# Altium footprint library Button_Switch_Keyboard.PcbLib: 29 footprints (part 1 of 2)
Each footprint in its own frame and in the unit in brackets; x right, y up, seen from the top. Pads: shape width x height; smd on the part's side, far side on the other; paste and mask are expansions set on the pad; w line width, h text height; cw(c..) or ccw(c..) is an arc to the next point about the centre after c.
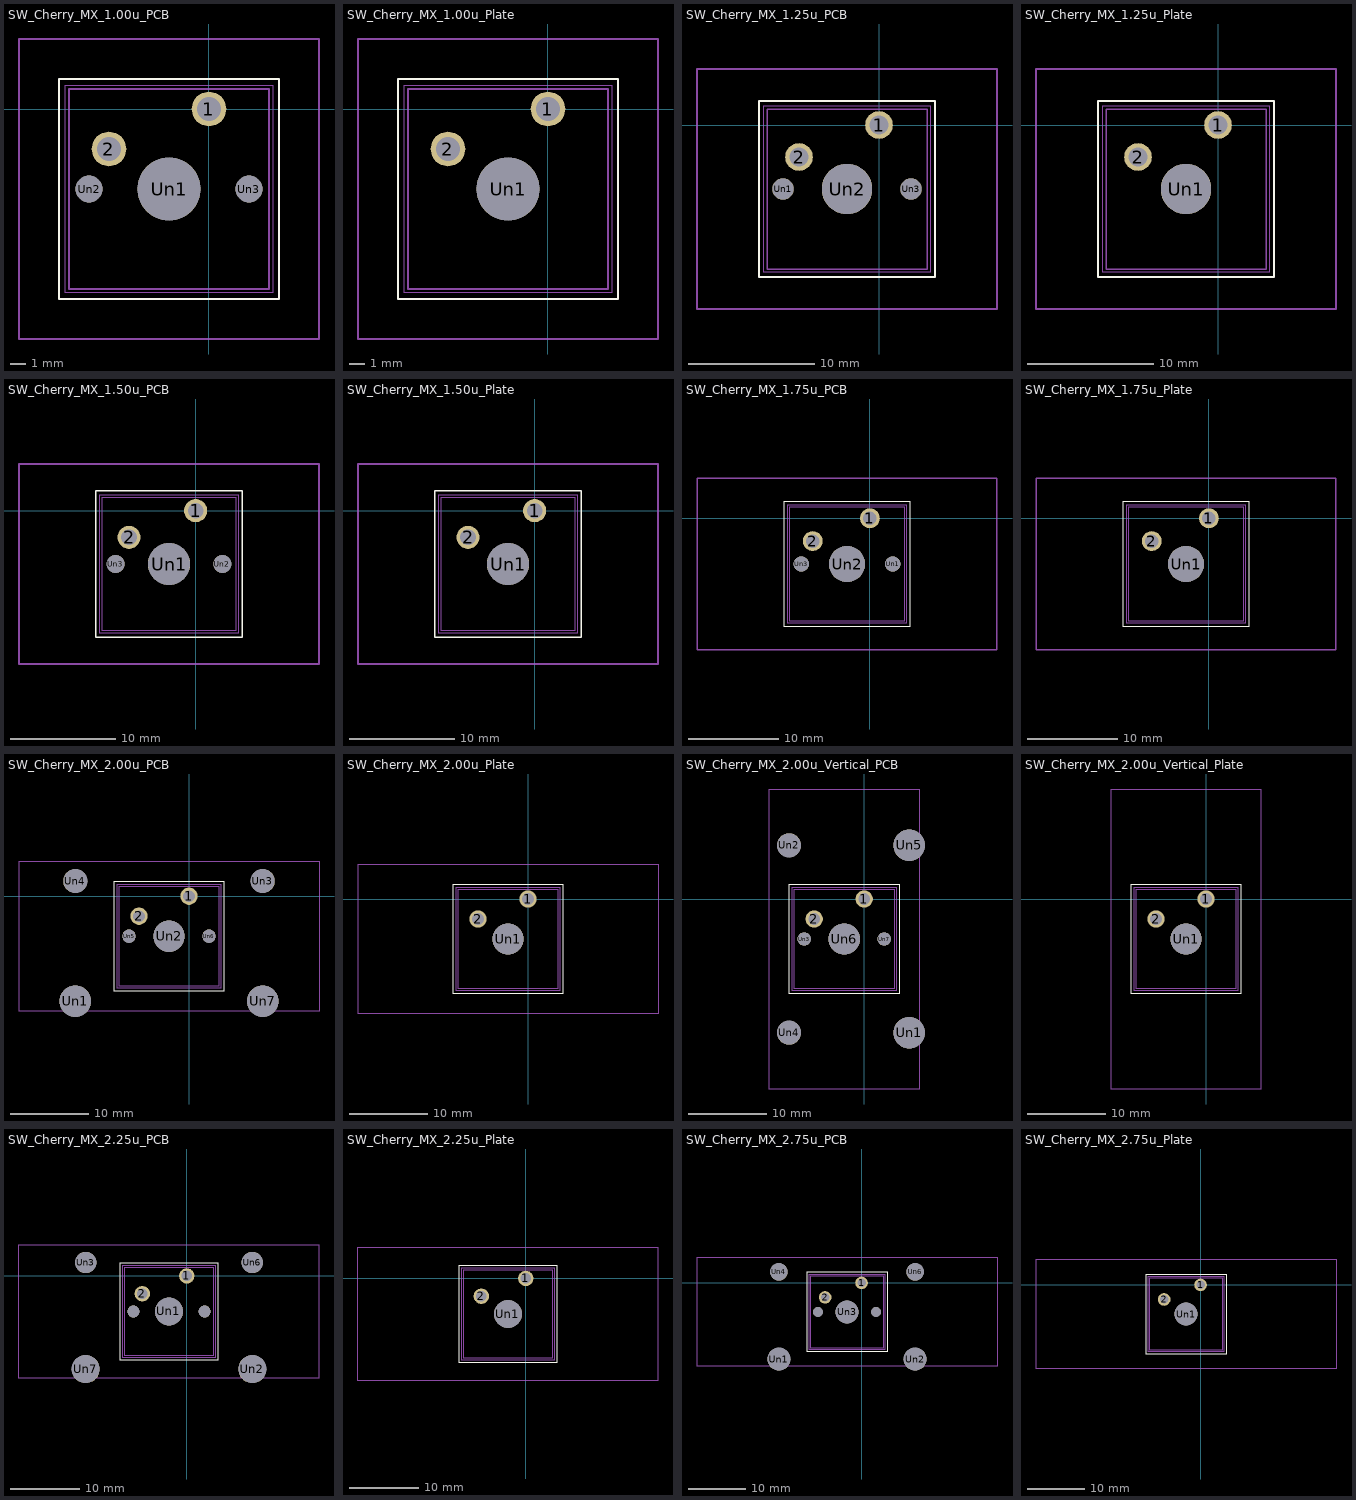
[diagram p0: the footprints below, top view; thin cyan lines are the x and y axes]

## SW_Cherry_MX_1.00u_PCB [mm]
pads (5):
  round 2.2 hole 1.5: 1(0,0) 2(-6.35,-2.54)
  round 4 hole 4: Un1(-2.54,-5.08)
  round 1.7 hole 1.7: Un2(-7.62,-5.08) Un3(2.54,-5.08)
F.SilkS:
  lines w0.12: -9.525,-12.065 -9.525,1.905 4.445,1.905 4.445,-12.065 -9.525,-12.065
Dwgs.User:
  lines w0.15: -12.065,-14.605 -12.065,4.445 6.985,4.445 6.985,-14.605 -12.065,-14.605
F.CrtYd:
  lines w0.05: -9.14,-11.68 -9.14,1.52 4.06,1.52 4.06,-11.68 -9.14,-11.68
F.Fab:
  lines w0.1: -8.89,-11.43 3.81,-11.43 3.81,1.27 -8.89,1.27 -8.89,-11.43
  text "'.Designator'" at -6.587,1.954 h1

## SW_Cherry_MX_1.00u_Plate [mm]
pads (3):
  round 2.2 hole 1.5: 1(0,0) 2(-6.35,-2.54)
  round 4 hole 4: Un1(-2.54,-5.08)
F.SilkS:
  lines w0.12: -9.525,-12.065 4.445,-12.065 4.445,1.905 -9.525,1.905 -9.525,-12.065
Dwgs.User:
  lines w0.15: -12.065,-14.605 -12.065,4.445 6.985,4.445 6.985,-14.605 -12.065,-14.605
F.CrtYd:
  lines w0.05: -9.14,-11.68 4.06,-11.68 4.06,1.52 -9.14,1.52 -9.14,-11.68
F.Fab:
  lines w0.1: -8.89,-11.43 3.81,-11.43 3.81,1.27 -8.89,1.27 -8.89,-11.43
  text "'.Designator'" at -6.587,1.954 h1

## SW_Cherry_MX_1.25u_PCB [mm]
pads (5):
  round 2.2 hole 1.5: 1(0,0) 2(-6.35,-2.54)
  round 1.7 hole 1.7: Un1(-7.62,-5.08) Un3(2.54,-5.08)
  round 4 hole 4: Un2(-2.54,-5.08)
F.SilkS:
  lines w0.12: -9.525,-12.065 -9.525,1.905 4.445,1.905 4.445,-12.065 -9.525,-12.065
Dwgs.User:
  lines w0.15: -14.446,-14.605 -14.446,4.445 9.366,4.445 9.366,-14.605 -14.446,-14.605
F.CrtYd:
  lines w0.05: -9.14,-11.68 -9.14,1.52 4.06,1.52 4.06,-11.68 -9.14,-11.68
F.Fab:
  lines w0.1: -8.89,-11.43 3.81,-11.43 3.81,1.27 -8.89,1.27 -8.89,-11.43
  text "'.Designator'" at -6.587,1.954 h1

## SW_Cherry_MX_1.25u_Plate [mm]
pads (3):
  round 2.2 hole 1.5: 1(0,0) 2(-6.35,-2.54)
  round 4 hole 4: Un1(-2.54,-5.08)
F.SilkS:
  lines w0.12: -9.525,-12.065 -9.525,1.905 4.445,1.905 4.445,-12.065 -9.525,-12.065
Dwgs.User:
  lines w0.15: -14.446,-14.605 9.366,-14.605 9.366,4.445 -14.446,4.445 -14.446,-14.605
F.CrtYd:
  lines w0.05: -9.14,-11.68 4.06,-11.68 4.06,1.52 -9.14,1.52 -9.14,-11.68
F.Fab:
  lines w0.1: -8.89,-11.43 -8.89,1.27 3.81,1.27 3.81,-11.43 -8.89,-11.43
  text "'.Designator'" at -6.587,1.954 h1

## SW_Cherry_MX_1.50u_PCB [mm]
pads (5):
  round 2.2 hole 1.5: 1(0,0) 2(-6.35,-2.54)
  round 4 hole 4: Un1(-2.54,-5.08)
  round 1.7 hole 1.7: Un2(2.54,-5.08) Un3(-7.62,-5.08)
F.SilkS:
  lines w0.12: -9.525,-12.065 4.445,-12.065 4.445,1.905 -9.525,1.905 -9.525,-12.065
Dwgs.User:
  lines w0.15: -16.828,-14.605 11.747,-14.605 11.747,4.445 -16.828,4.445 -16.828,-14.605
F.CrtYd:
  lines w0.05: -9.14,-11.68 4.06,-11.68 4.06,1.52 -9.14,1.52 -9.14,-11.68
F.Fab:
  lines w0.1: -8.89,-11.43 -8.89,1.27 3.81,1.27 3.81,-11.43 -8.89,-11.43
  text "'.Designator'" at -6.587,1.954 h1

## SW_Cherry_MX_1.50u_Plate [mm]
pads (3):
  round 2.2 hole 1.5: 1(0,0) 2(-6.35,-2.54)
  round 4 hole 4: Un1(-2.54,-5.08)
F.SilkS:
  lines w0.12: -9.525,-12.065 4.445,-12.065 4.445,1.905 -9.525,1.905 -9.525,-12.065
Dwgs.User:
  lines w0.15: -16.828,-14.605 -16.828,4.445 11.747,4.445 11.747,-14.605 -16.828,-14.605
F.CrtYd:
  lines w0.05: -9.14,-11.68 4.06,-11.68 4.06,1.52 -9.14,1.52 -9.14,-11.68
F.Fab:
  lines w0.1: -8.89,-11.43 3.81,-11.43 3.81,1.27 -8.89,1.27 -8.89,-11.43
  text "'.Designator'" at -6.587,1.954 h1

## SW_Cherry_MX_1.75u_PCB [mm]
pads (5):
  round 2.2 hole 1.5: 1(0,0) 2(-6.35,-2.54)
  round 1.7 hole 1.7: Un1(2.54,-5.08) Un3(-7.62,-5.08)
  round 4 hole 4: Un2(-2.54,-5.08)
F.SilkS:
  lines w0.12: -9.525,-12.065 -9.525,1.905 4.445,1.905 4.445,-12.065 -9.525,-12.065
Dwgs.User:
  lines w0.15: -19.209,-14.605 14.129,-14.605 14.129,4.445 -19.209,4.445 -19.209,-14.605
F.CrtYd:
  lines w0.05: -9.14,-11.68 -9.14,1.52 4.06,1.52 4.06,-11.68 -9.14,-11.68
F.Fab:
  lines w0.1: -8.89,-11.43 -8.89,1.27 3.81,1.27 3.81,-11.43 -8.89,-11.43
  text "'.Designator'" at -6.587,1.954 h1

## SW_Cherry_MX_1.75u_Plate [mm]
pads (3):
  round 2.2 hole 1.5: 1(0,0) 2(-6.35,-2.54)
  round 4 hole 4: Un1(-2.54,-5.08)
F.SilkS:
  lines w0.12: -9.525,-12.065 -9.525,1.905 4.445,1.905 4.445,-12.065 -9.525,-12.065
Dwgs.User:
  lines w0.15: -19.209,-14.605 -19.209,4.445 14.129,4.445 14.129,-14.605 -19.209,-14.605
F.CrtYd:
  lines w0.05: -9.14,-11.68 -9.14,1.52 4.06,1.52 4.06,-11.68 -9.14,-11.68
F.Fab:
  lines w0.1: -8.89,-11.43 -8.89,1.27 3.81,1.27 3.81,-11.43 -8.89,-11.43
  text "'.Designator'" at -6.587,1.954 h1

## SW_Cherry_MX_2.00u_PCB [mm]
pads (9):
  round 2.2 hole 1.5: 1(0,0) 2(-6.35,-2.54)
  round 4 hole 4: Un1(-14.44,-13.32) Un2(-2.54,-5.08) Un7(9.36,-13.32)
  round 3.05 hole 3.05: Un3(9.36,1.92) Un4(-14.44,1.92)
  round 1.7 hole 1.7: Un5(-7.62,-5.08) Un6(2.54,-5.08)
F.SilkS:
  lines w0.12: -9.525,-12.065 -9.525,1.905 4.445,1.905 4.445,-12.065 -9.525,-12.065
Dwgs.User:
  lines w0.15: -21.59,-14.605 16.51,-14.605 16.51,4.445 -21.59,4.445 -21.59,-14.605
F.CrtYd:
  lines w0.05: -9.14,-11.68 -9.14,1.52 4.06,1.52 4.06,-11.68 -9.14,-11.68
F.Fab:
  lines w0.1: -8.89,-11.43 -8.89,1.27 3.81,1.27 3.81,-11.43 -8.89,-11.43
  text "'.Designator'" at -6.587,1.954 h1

## SW_Cherry_MX_2.00u_Plate [mm]
pads (3):
  round 2.2 hole 1.5: 1(0,0) 2(-6.35,-2.54)
  round 4 hole 4: Un1(-2.54,-5.08)
F.SilkS:
  lines w0.12: -9.525,-12.065 4.445,-12.065 4.445,1.905 -9.525,1.905 -9.525,-12.065
Dwgs.User:
  lines w0.15: -21.59,-14.605 -21.59,4.445 16.51,4.445 16.51,-14.605 -21.59,-14.605
F.CrtYd:
  lines w0.05: -9.14,-11.68 4.06,-11.68 4.06,1.52 -9.14,1.52 -9.14,-11.68
F.Fab:
  lines w0.1: -8.89,-11.43 3.81,-11.43 3.81,1.27 -8.89,1.27 -8.89,-11.43
  text "'.Designator'" at -6.587,1.954 h1

## SW_Cherry_MX_2.00u_Vertical_PCB [mm]
pads (9):
  round 2.2 hole 1.5: 1(0,0) 2(-6.35,-2.54)
  round 4 hole 4: Un1(5.7,-16.98) Un5(5.7,6.82) Un6(-2.54,-5.08)
  round 3.05 hole 3.05: Un2(-9.54,6.82) Un4(-9.54,-16.98)
  round 1.7 hole 1.7: Un3(-7.62,-5.08) Un7(2.54,-5.08)
F.SilkS:
  lines w0.12: -9.525,-12.065 -9.525,1.905 4.445,1.905 4.445,-12.065 -9.525,-12.065
Dwgs.User:
  lines w0.15: -12.065,-24.13 -12.065,13.97 6.985,13.97 6.985,-24.13 -12.065,-24.13
F.CrtYd:
  lines w0.05: -9.14,-11.68 4.06,-11.68 4.06,1.52 -9.14,1.52 -9.14,-11.68
F.Fab:
  lines w0.1: -8.89,-11.43 3.81,-11.43 3.81,1.27 -8.89,1.27 -8.89,-11.43
  text "'.Designator'" at -6.587,1.954 h1

## SW_Cherry_MX_2.00u_Vertical_Plate [mm]
pads (3):
  round 2.2 hole 1.5: 1(0,0) 2(-6.35,-2.54)
  round 4 hole 4: Un1(-2.54,-5.08)
F.SilkS:
  lines w0.12: -9.525,-12.065 -9.525,1.905 4.445,1.905 4.445,-12.065 -9.525,-12.065
Dwgs.User:
  lines w0.15: -12.065,-24.13 -12.065,13.97 6.985,13.97 6.985,-24.13 -12.065,-24.13
F.CrtYd:
  lines w0.05: -9.14,-11.68 -9.14,1.52 4.06,1.52 4.06,-11.68 -9.14,-11.68
F.Fab:
  lines w0.1: -8.89,-11.43 3.81,-11.43 3.81,1.27 -8.89,1.27 -8.89,-11.43
  text "'.Designator'" at -6.587,1.954 h1

## SW_Cherry_MX_2.25u_PCB [mm]
pads (9):
  round 2.2 hole 1.5: 1(0,0) 2(-6.35,-2.54)
  round 4 hole 4: Un1(-2.54,-5.08) Un2(9.36,-13.32) Un7(-14.44,-13.32)
  round 3.05 hole 3.05: Un3(-14.44,1.92) Un6(9.36,1.92)
  round 1.7 hole 1.7: Un4(2.54,-5.08) Un5(-7.62,-5.08)
F.SilkS:
  lines w0.12: -9.525,-12.065 -9.525,1.905 4.445,1.905 4.445,-12.065 -9.525,-12.065
Dwgs.User:
  lines w0.15: -23.971,-14.605 18.891,-14.605 18.891,4.445 -23.971,4.445 -23.971,-14.605
F.CrtYd:
  lines w0.05: -9.14,-11.68 4.06,-11.68 4.06,1.52 -9.14,1.52 -9.14,-11.68
F.Fab:
  lines w0.1: -8.89,-11.43 3.81,-11.43 3.81,1.27 -8.89,1.27 -8.89,-11.43
  text "'.Designator'" at -6.587,1.954 h1

## SW_Cherry_MX_2.25u_Plate [mm]
pads (3):
  round 2.2 hole 1.5: 1(0,0) 2(-6.35,-2.54)
  round 4 hole 4: Un1(-2.54,-5.08)
F.SilkS:
  lines w0.12: -9.525,-12.065 4.445,-12.065 4.445,1.905 -9.525,1.905 -9.525,-12.065
Dwgs.User:
  lines w0.15: -23.971,-14.605 -23.971,4.445 18.891,4.445 18.891,-14.605 -23.971,-14.605
F.CrtYd:
  lines w0.05: -9.14,-11.68 4.06,-11.68 4.06,1.52 -9.14,1.52 -9.14,-11.68
F.Fab:
  lines w0.1: -8.89,-11.43 3.81,-11.43 3.81,1.27 -8.89,1.27 -8.89,-11.43
  text "'.Designator'" at -6.587,1.954 h1

## SW_Cherry_MX_2.75u_PCB [mm]
pads (9):
  round 2.2 hole 1.5: 1(0,0) 2(-6.35,-2.54)
  round 4 hole 4: Un1(-14.44,-13.32) Un2(9.36,-13.32) Un3(-2.54,-5.08)
  round 3.05 hole 3.05: Un4(-14.44,1.92) Un6(9.36,1.92)
  round 1.7 hole 1.7: Un5(-7.62,-5.08) Un7(2.54,-5.08)
F.SilkS:
  lines w0.12: -9.525,-12.065 4.445,-12.065 4.445,1.905 -9.525,1.905 -9.525,-12.065
Dwgs.User:
  lines w0.15: -28.734,-14.605 -28.734,4.445 23.654,4.445 23.654,-14.605 -28.734,-14.605
F.CrtYd:
  lines w0.05: -9.14,-11.68 -9.14,1.52 4.06,1.52 4.06,-11.68 -9.14,-11.68
F.Fab:
  lines w0.1: -8.89,-11.43 3.81,-11.43 3.81,1.27 -8.89,1.27 -8.89,-11.43
  text "'.Designator'" at -6.587,1.954 h1

## SW_Cherry_MX_2.75u_Plate [mm]
pads (3):
  round 2.2 hole 1.5: 1(0,0) 2(-6.35,-2.54)
  round 4 hole 4: Un1(-2.54,-5.08)
F.SilkS:
  lines w0.12: -9.525,-12.065 -9.525,1.905 4.445,1.905 4.445,-12.065 -9.525,-12.065
Dwgs.User:
  lines w0.15: -28.734,-14.605 -28.734,4.445 23.654,4.445 23.654,-14.605 -28.734,-14.605
F.CrtYd:
  lines w0.05: -9.14,-11.68 4.06,-11.68 4.06,1.52 -9.14,1.52 -9.14,-11.68
F.Fab:
  lines w0.1: -8.89,-11.43 3.81,-11.43 3.81,1.27 -8.89,1.27 -8.89,-11.43
  text "'.Designator'" at -6.587,1.954 h1